# Altium footprint library ONSEMI_SC-89.PcbLib: 1 footprints
Each footprint in its own frame and in the unit in brackets; x right, y up, seen from the top. Pads: shape width x height; smd on the part's side, far side on the other; paste and mask are expansions set on the pad; w line width, h text height; cw(c..) or ccw(c..) is an arc to the next point about the centre after c.
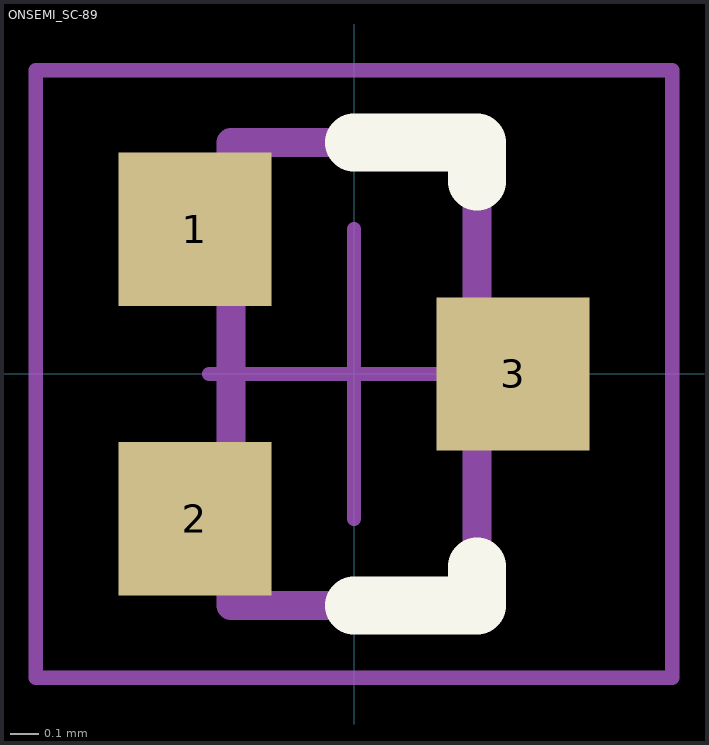
[diagram p0: the footprint, top view; thin cyan lines are the x and y axes]

## ONSEMI_SC-89 [mm] "ONSEMI_SC-89"
height 0.7
pads (3):
  rect 0.53x0.53 smd: 1(-0.55,0.5) 2(-0.55,-0.5) 3(0.55,0)
Top Overlay:
  lines w0.2: 0,-0.8 0.425,-0.8 0.425,-0.665 ; 0,0.8 0.425,0.8 0.425,0.665
Mechanical 13:
  lines w0.1: -0.425,-0.8 -0.425,0.8 0.425,0.8 0.425,-0.8 -0.425,-0.8
Mechanical 15:
  lines w0.05: -0.5,0 0.5,0 ; 0,-0.5 0,0.5 ; -1.1,-1.05 -1.1,1.05 1.1,1.05 1.1,-1.05 -1.1,-1.05
3D body: height 0.7, standoff 0, extent -0.425,-0.8 0.425,0.8